# EAGLE library part MHS233K (library switches)
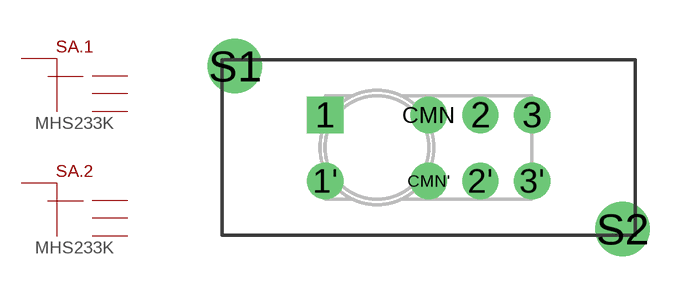
[diagram p12: symbol with the pads of APEM-MHS233K; footprint APEM-MHS233K]

Designator prefix SA; gates .1=SWITCH-3POS .2=SWITCH-3POS

## MHS233K  [APEM-MHS233K]
1  .1:1  pas
1'  .2:1  pas
2  .1:2  pas
2'  .2:2  pas
3  .1:3  pas
3'  .2:3  pas
CMN  .1:CM  pas
CMN'  .2:CM  pas

## Footprint APEM-MHS233K (pad centres in mm)
drill 0.9 square: 1 -4,1.25
drill 0.9: 1' -4,-1.29; 2 2,1.25; 2' 2,-1.29; 3 4,1.25; 3' 4,-1.29; CMN 0,1.25; CMN' 0,-1.29
drill 1.4: S1 -7.5,3.15; S2 7.5,-3.15